# Altium schematic symbol library Res_Panasonic_ERJ-3GEYJ300V_30.SchLib: 1 symbol
Pins are listed as number, name and electrical type; pins without a type are passive.

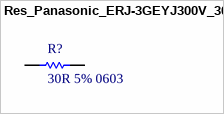
[diagram p0: symbol Res_Panasonic_ERJ-3GEYJ300V_30]

## Res_Panasonic_ERJ-3GEYJ300V_30
designator R?, comment 30R 5% 0603
RES SMD 30 OHM 5% 1/10W 0603; Supplier Part Number 1: 667-ERJ-3GEYJ300V; Supplier 1: Mouser
footprint Res_Panasonic_ERJ-3GEYJ300V_30
pins: 1, 2